# Altium footprint library AoA_Locator.PcbLib: 2 footprints
Each footprint in its own frame and in the unit in brackets; x right, y up, seen from the top. Pads: shape width x height; smd on the part's side, far side on the other; paste and mask are expansions set on the pad; w line width, h text height; cw(c..) or ccw(c..) is an arc to the next point about the centre after c.
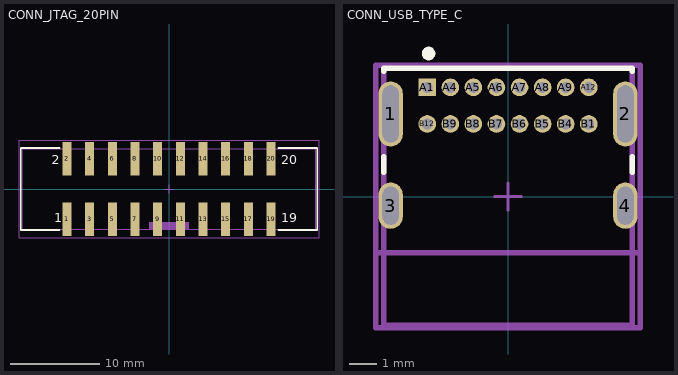
[diagram p0: the footprints below, top view; thin cyan lines are the x and y axes]

## CONN_JTAG_20PIN [mm] "WR-BHD 2.54mm Male SMT Box Header (Reel), 20p"
height 9.1
pads (20):
  rect 1x3.75 smd: 1(-11.43,-3.375) 2(-11.43,3.375) 3(-8.89,-3.375) 4(-8.89,3.375) 5(-6.35,-3.375) 6(-6.35,3.375) 7(-3.81,-3.375) 8(-3.81,3.375) 9(-1.27,-3.375) 10(-1.27,3.375) 11(1.27,-3.375) 12(1.27,3.375) 13(3.81,-3.375) 14(3.81,3.375) 15(6.35,-3.375) 16(6.35,3.375) 17(8.89,-3.375) 18(8.89,3.375) 19(11.43,-3.375) 20(11.43,3.375)
Top Overlay:
  lines w0.2: -12.25,-4.6 -16.6,-4.6 -16.6,4.6 -12.25,4.6 ; 12.25,-4.6 16.6,-4.6 16.6,4.6 12.25,4.6
  text "20" at 12.55,2.8 h1.02
  text "19" at 12.55,-3.7 h1.02
  text "1" at -12.85,-3.7 h1.02
  text "2" at -13.15,2.8 h1.02
Mechanical 13:
  rectangle: -2.25,-4.5 2.25,-3.69
  lines w0.1: -16.45,-4.5 16.45,-4.5 16.45,4.5 -16.45,4.5 -16.45,-4.5
Mechanical 15:
  lines w0.05: -0.5,0 0.5,0 ; 0,-0.5 0,0.5 ; -16.8,-5.45 16.8,-5.45 16.8,5.45 -16.8,5.45 -16.8,-5.45
3D body "61232020621.stp": height 10.55, standoff 0.04, extent -16.51,-4.75 16.51,4.75

## CONN_USB_TYPE_C [mm]
pads (20):
  rrect100% 0.9x2.4 hole 2.1 slot 0.6 at 0 deg paste-1000 mask+0: 1(-4.325,3.045) 2(4.325,3.045)
  rrect100% 0.9x1.7 hole 1.4 slot 0.6 at 0 deg paste-1000 mask+0: 3(-4.325,-0.335) 4(4.325,-0.335)
  rect 0.65x0.65 hole 0.4 paste-1000 mask+0: A1(-2.975,4.025)
  round 0.65 hole 0.4 paste-1000 mask+0: A4(-2.125,4.025) A5(-1.275,4.025) A6(-0.425,4.025) A7(0.425,4.025) A8(1.275,4.025) A9(2.125,4.025) A12(2.975,4.025) B1(2.975,2.675) B4(2.125,2.675) B5(1.275,2.675) B6(0.425,2.675) B7(-0.425,2.675) B8(-1.275,2.675) B9(-2.125,2.675) B12(-2.975,2.675)
Top Overlay:
  circle w0.25: c-2.925,5.27 r0.125
  lines w0.2: -4.575,0.89 -4.575,1.47 ; -4.575,4.62 -4.575,4.735 4.575,4.735 4.575,4.62 ; 4.575,0.89 4.575,1.47
Top 3D Body:
  lines w0.2: -4.875,-2.075 4.875,-2.075 ; -4.575,-4.735 4.575,-4.735 4.575,4.735 -4.575,4.735 -4.575,-4.735
Top Courtyard:
  lines w0.2: -4.875,-4.835 4.875,-4.835 4.875,4.835 -4.875,4.835 -4.875,-4.835
Top Assembly:
  lines w0.2: -4.875,-4.835 4.875,-4.835 4.875,4.835 -4.875,4.835 -4.875,-4.835
  text ".Designator" at 0,0.188 h1
Top Component Center:
  lines w0.1: -0.5,0 0.5,0 ; 0,-0.5 0,0.5
3D body "Conn_Global_Connector_Technology_USB4085-GF-A_eec.STEP": height 0.25, standoff 0, extent -4.875,-4.835 4.875,4.835